# Altium footprint library ADXL357.PcbLib: 1 footprints
Each footprint in its own frame and in the unit in brackets; x right, y up, seen from the top. Pads: shape width x height; smd on the part's side, far side on the other; paste and mask are expansions set on the pad; w line width, h text height; cw(c..) or ccw(c..) is an arc to the next point about the centre after c.
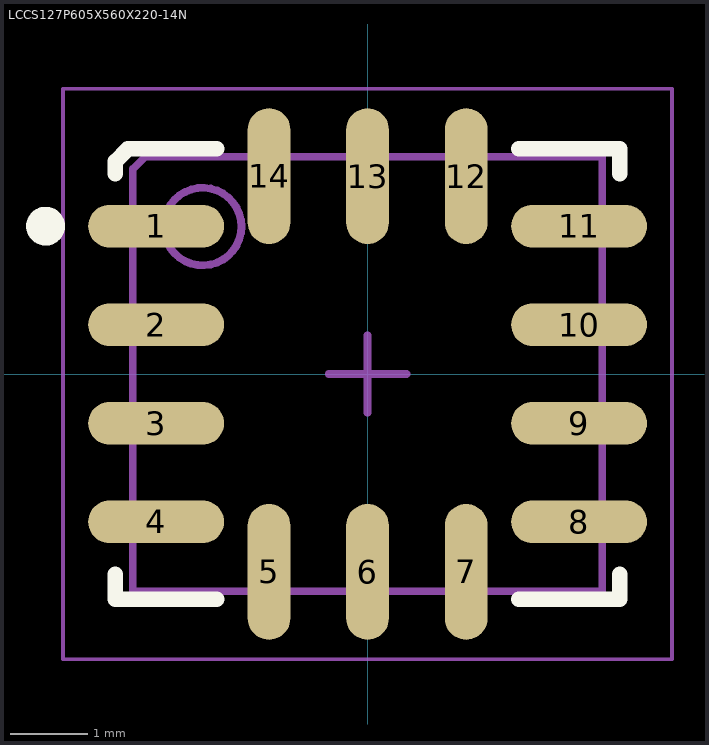
[diagram p0: the footprint, top view; thin cyan lines are the x and y axes]

## LCCS127P605X560X220-14N [mm] "LCC, 14-Pins, Body 6.05x5.60mmx2.20mm, Pitch 1.27mm, IPC Medium Density"
height 2.2
pads (14):
  oval 1.75x0.55 smd: 1(-2.725,1.905) 2(-2.725,0.635) 3(-2.725,-0.635) 4(-2.725,-1.905) 8(2.725,-1.905) 9(2.725,-0.635) 10(2.725,0.635) 11(2.725,1.905)
  oval 0.55x1.75 smd: 5(-1.27,-2.55) 6(0,-2.55) 7(1.27,-2.55) 12(1.27,2.55) 13(0,2.55) 14(-1.27,2.55)
Top Overlay:
  circle w0.25: c-4.15,1.905 r0.125
  lines w0.2: -3.25,-2.58 -3.25,-2.9 -1.945,-2.9 ; -3.25,2.58 -3.25,2.74 -3.09,2.9 -1.945,2.9 ; 1.945,-2.9 3.25,-2.9 3.25,-2.58 ; 1.945,2.9 3.25,2.9 3.25,2.58
Mechanical 13:
  circle w0.1: c-2.125,1.9 r0.5
  lines w0.1: -3.025,-2.8 3.025,-2.8 3.025,2.8 -2.865,2.8 -3.025,2.64 -3.025,-2.8
Mechanical 15:
  lines w0.05: -3.925,-3.675 3.925,-3.675 3.925,3.675 -3.925,3.675 -3.925,-3.675
  lines w0.1: -0.5,0 0.5,0 ; 0,-0.5 0,0.5
3D body "LCCS127P605X560X220-14N.step": height 2.2, standoff 0, extent -3.125,-2.8 3.125,2.8